# Altium integrated library 1235AS-H-6R8M_P3.IntLib: 1 symbol
Pins are listed as number, name and electrical type; pins without a type are passive.

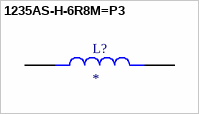
[diagram p0: symbol 1235AS-H-6R8M=P3]

## 1235AS-H-6R8M=P3
designator L?
Inductor with Inductance: 6.8uH Tol. +/-20%, Package: 1818 (4745); MP: 1235AS-H-6R8M=P3; MF: Murata; Purchase-URL: https://pricing.snapeda.com/search/part/1235AS-H-6R8M=P3/?ref=eda; Package: NONSTANDARD; Value: *; SnapEDA_Link: https://www.snapeda.com/parts/1235AS-H-6R8M=P3/Murata/view-part/1512974/?ref=snap; Check_prices: https://www.snapeda.com/parts/1235AS-H-6R8M=P3/Murata/view-part/1512974/?ref=eda; Digi-Key_Part_Number: 490-14206-1-ND
footprint IND_1235AS-H-6R8M=P3
pins: 1, 2